# Altium schematic symbol library SKF2.5-5V4.SchLib: 1 symbol
Pins are listed as number, name and electrical type; pins without a type are passive.

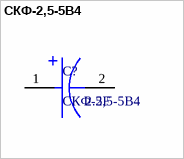
[diagram p0: symbol СКФ-2,5-5В4]

## СКФ-2,5-5В4
designator C?  value 2.5F
footprint CH? (СКФ-2,5-5В4)
footprint Cv? (vertical orientation)
footprint C10deg (horizontal, 10deg rotation)
pins: 1 15, 2 16
text: +